# Altium footprint library PIC16F1827-X_SS.PcbLib: 1 footprints
Each footprint in its own frame and in the unit in brackets; x right, y up, seen from the top. Pads: shape width x height; smd on the part's side, far side on the other; paste and mask are expansions set on the pad; w line width, h text height; cw(c..) or ccw(c..) is an arc to the next point about the centre after c.
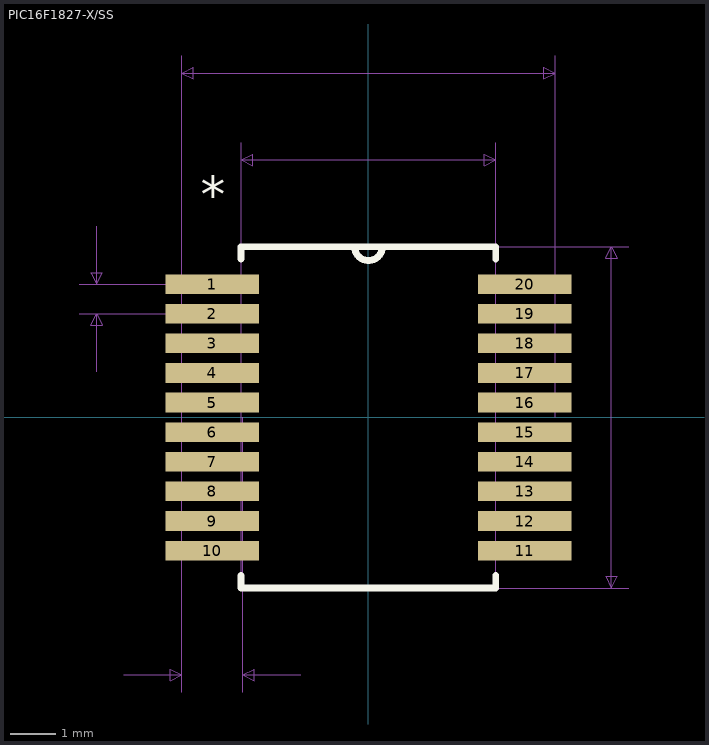
[diagram p0: the footprint, top view; thin cyan lines are the x and y axes]

## PIC16F1827-X/SS [mil]
pads (20):
  rect 81x17 smd: 1(-135,115.16) 2(-135,89.57) 3(-135,63.98) 4(-135,38.39) 5(-135,12.8) 6(-135,-12.8) 7(-135,-38.39) 8(-135,-63.98) 9(-135,-89.57) 10(-135,-115.16) 11(135,-115.16) 12(135,-89.57) 13(135,-63.98) 14(135,-38.39) 15(135,-12.8) 16(135,12.8) 17(135,38.39) 18(135,63.98) 19(135,89.57) 20(135,115.16)
Top Overlay:
  lines w6: -110,-136.76 -110,-147.5 110,-147.5 110,-136.76 ; -110,136.76 -110,147.5 110,147.5 110,136.76 ; -12,147.5 ccw(c0,147.5) 12,147.5
  text "*" at -145,177.16 h31.25
Mechanical 1:
  lines w1: -12,147.5 ccw(c0,147.5) 12,147.5 ; -161.5,-122.66 -110,-122.66 -110,-107.66 -161.5,-107.66 -161.5,-122.66 ; -161.5,-97.07 -110,-97.07 -110,-82.07 -161.5,-82.07 -161.5,-97.07 ; -161.5,-71.48 -110,-71.48 -110,-56.48 -161.5,-56.48 -161.5,-71.48 ; -161.5,-45.89 -110,-45.89 -110,-30.89 -161.5,-30.89 -161.5,-45.89 ; -161.5,-20.3 -110,-20.3 -110,-5.3 -161.5,-5.3 -161.5,-20.3 ; -161.5,5.3 -110,5.3 -110,20.3 -161.5,20.3 -161.5,5.3 ; -161.5,30.89 -110,30.89 -110,45.89 -161.5,45.89 -161.5,30.89 ; -161.5,56.48 -110,56.48 -110,71.48 -161.5,71.48 -161.5,56.48 ; -161.5,82.07 -110,82.07 -110,97.07 -161.5,97.07 -161.5,82.07 ; -161.5,107.66 -110,107.66 -110,122.66 -161.5,122.66 -161.5,107.66 ; -110,-147.5 -110,147.5 110,147.5 110,-147.5 -110,-147.5 ; 110,-122.66 161.5,-122.66 161.5,-107.66 110,-107.66 110,-122.66 ; 110,-97.07 161.5,-97.07 161.5,-82.07 110,-82.07 110,-97.07 ; 110,-71.48 161.5,-71.48 161.5,-56.48 110,-56.48 110,-71.48 ; 110,-45.89 161.5,-45.89 161.5,-30.89 110,-30.89 110,-45.89 ; 110,-20.3 161.5,-20.3 161.5,-5.3 110,-5.3 110,-20.3 ; 110,5.3 161.5,5.3 161.5,20.3 110,20.3 110,5.3 ; 110,30.89 161.5,30.89 161.5,45.89 110,45.89 110,30.89 ; 110,56.48 161.5,56.48 161.5,71.48 110,71.48 110,56.48 ; 110,82.07 161.5,82.07 161.5,97.07 110,97.07 110,82.07 ; 110,107.66 161.5,107.66 161.5,122.66 110,122.66 110,107.66
  text "*" at -145,177.16 h31.25
Mechanical 16:
  lines w1: -250,89.57 -135,89.57 ; -250,115.16 -135,115.16 ; -235,39.57 -235,89.57 ; -235,165.16 -235,115.16 ; -211.5,-222.5 -161.5,-222.5 ; -161.5,-237.5 -161.5,0 -161.5,312.5 ; -110,0 -110,237.5 ; -108.5,-237.5 -108.5,0 ; -58.5,-222.5 -108.5,-222.5 ; 0,-147.5 225,-147.5 ; 0,147.5 225,147.5 ; 110,0 110,237.5 ; 161.5,0 161.5,312.5 ; -235,89.57 -230,79.57 -240,79.57 -235,89.57 ; -235,115.16 -230,125.16 -240,125.16 -235,115.16 ; -161.5,-222.5 -171.5,-227.5 -171.5,-217.5 -161.5,-222.5 ; -161.5,297.5 -151.5,292.5 -151.5,302.5 -161.5,297.5 ; -161.5,297.5 161.5,297.5 ; -110,222.5 -100,217.5 -100,227.5 -110,222.5 ; -110,222.5 110,222.5 ; -108.5,-222.5 -98.5,-227.5 -98.5,-217.5 -108.5,-222.5 ; 110,222.5 100,217.5 100,227.5 110,222.5 ; 161.5,297.5 151.5,292.5 151.5,302.5 161.5,297.5 ; 210,-147.5 215,-137.5 205,-137.5 210,-147.5 ; 210,-147.5 210,147.5 ; 210,147.5 215,137.5 205,137.5 210,147.5
  text ".037in/.94mm" at -135,-242.5 h15.62
  text "2.559055E-02in/.65mm" at -255,102.36 h15.62
  text ".295in/7.493mm" at 230,0 h15.62
  text ".323in/8.204mm" at 0,317.5 h15.62
  text ".22in/5.588mm" at 0,242.5 h15.62